# Altium schematic symbol library TPSM53602.SchLib: 1 symbol
Pins are listed as number, name and electrical type; pins without a type are passive.

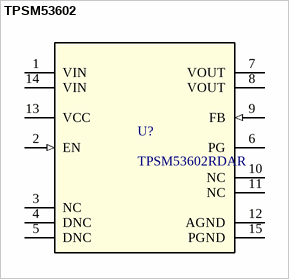
[diagram p0: symbol TPSM53602]

## TPSM53602
designator U?, comment TPSM53602RDAR
36-V, 2-A step-down power module in small 5.5 x 5 x 4-mm Enhanced HotRod™ QFN with simple footprint; Manufacturer: Texas Instruments; PartNumber: TPSM53602RDAR; RefDes: RefDes; Type: DEV; Value: Value; Copyright: Copyright (C) 2018 Accelerated Designs. All rights reserved; ComponentLink1Description: Product Page; ComponentLink1URL: https://www.ti.com/product/TPSM53602
footprint RDA0015A
pins: 1 VIN (power), 2 EN (in), 3 NC, 4 DNC, 5 DNC, 6 PG (oc), 7 VOUT (power), 8 VOUT (power), 9 FB (in), 10 NC, 11 NC, 12 AGND (power), 13 VCC (power), 14 VIN (power), 15 PGND (power)